# Altium schematic symbol library MAX31855KASA+T.SchLib: 1 symbol
Pins are listed as number, name and electrical type; pins without a type are passive.

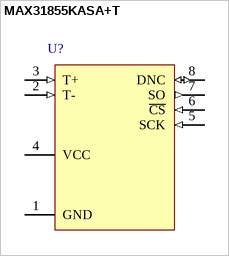
[diagram p0: symbol MAX31855KASA+T]

## MAX31855KASA+T
designator U?
pins: 1 GND (power), 2 T- (in), 3 T+ (in), 4 VCC (power), 5 SCK (in), 6 ~{CS} (in), 7 SO (out), 8 DNC (io)